# Altium schematic symbol library USB, DVI, HDMI Connectors.SchLib: 1 symbol
Pins are listed as number, name and electrical type; pins without a type are passive.

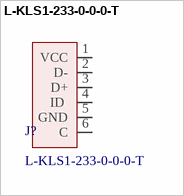
[diagram p0: symbol L-KLS1-233-0-0-0-T]

## L-KLS1-233-0-0-0-T
designator J?
CONNECTOR USB MICRO B TYPE FEMALE SMT R/A W/O POST; Manufacturer: KLS ELECTRONIC; Designed: Ferdi; Number of Contacts: 5PIN; Pitch: 0.65mm; Color of Housing: BLACK; Series No: KLS1-233; Gender: FEMALE; Mounting Type: SMT R/A; Contact Type: SOLDER; Contact Plating: GOLD FLASH; Shell Plating: TIN OR GOLD; Operating Temperature: -30°C~+80°C; Rohs: ROHS; Packaging: TUBE; ComponentLink1Description: Buy; ComponentLink1URL: https://ozdisan.com/konnektor-ve-baglanti-elemanlari/usb-dvi-hdmi-konnektorler/usb-konnektorler/L-KLS1-233-0-0-0-T/490542; ComponentLink2Description: DataSheet; ComponentLink2URL: https://cdn.ozdisan.com/ETicaret_Dosya/490542_8875282.PDF
footprint Mıcro USB-B (Distance Between Pins 0.65mm)
pins: 1 VCC, 2 D-, 3 D+, 4 ID , 5 GND, 6 C